# EAGLE library part XR-2321P (library exar)
V.23/V.21 MODEM
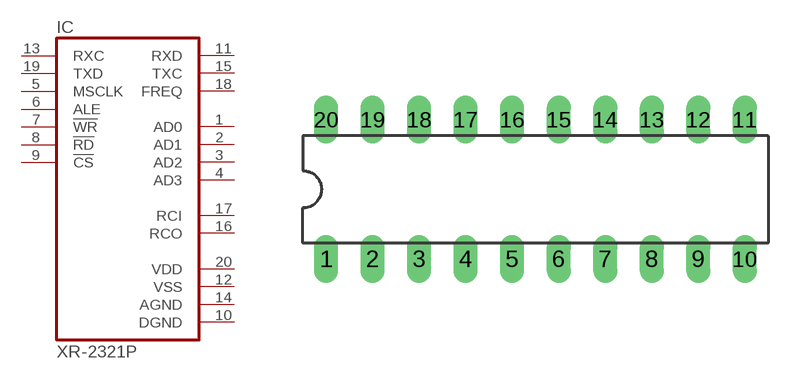
[diagram p51: symbol with the pads of DIL20; footprint DIL20]

Designator prefix IC

## XR-2321P (OC_FARNELL: unknown; OC_NEWARK: unknown)  [DIL20]
1  AD0
2  AD1
3  AD2
4  AD3
5  MSCLK  in
6  ALE  in
7  !WR  in
8  !RD  in
9  !CS  in
10  DGND  pwr
11  RXD  out
12  VSS  pwr
13  RXC  in
14  AGND  pwr
15  TXC  out
16  RCO
17  RCI
18  FREQ  out
19  TXD  in
20  VDD  pwr

## Footprint DIL20 (pad centres in mm)
Dual In Line Package
drill 0.813 long: 1 -11.43,-3.81; 2 -8.89,-3.81; 3 -6.35,-3.81; 4 -3.81,-3.81; 5 -1.27,-3.81; 6 1.27,-3.81; 7 3.81,-3.81; 8 6.35,-3.81; 9 8.89,-3.81; 10 11.43,-3.81; 11 11.43,3.81; 12 8.89,3.81; 13 6.35,3.81; 14 3.81,3.81; 15 1.27,3.81; 16 -1.27,3.81; 17 -3.81,3.81; 18 -6.35,3.81; 19 -8.89,3.81; 20 -11.43,3.81